# Altium schematic symbol library RES_Default.Schlib: 1 symbol
Pins are listed as number, name and electrical type; pins without a type are passive.

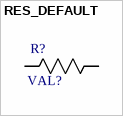
[diagram p0: symbol RES_DEFAULT]

## RES_DEFAULT
designator R?, comment VAL?
Default Resistor Symbol; Value: 1; Power (Watts): 0.125W; Tolerance: 5%; Package: 0805
footprint 0805
footprint 0603
pins: 1 R1, 2 R2